# Altium integrated library ECS-TXO-5032-120-TR.IntLib: 1 symbol
Pins are listed as number, name and electrical type; pins without a type are passive.

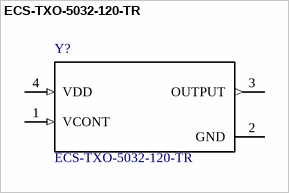
[diagram p0: symbol ECS-TXO-5032-120-TR]

## ECS-TXO-5032-120-TR
designator Y?
ECS-TXO-5032, OSC TCXO 12.000MHZ HCMOS SMD, 3.3V, 2.5ppm, -30C ~ 85C, 6mA, Surface Mount, 0.197 L x 0.126 W _5.00mm...; MF: ECS Inc.; Digi-Key_Purchase_URL: *; Package: SMD-4 ECS International; SnapEDA_Link: https://www.snapeda.com/parts/ECS-TXO-5032-120-TR/ECS%20Inc./view-part/?ref=snap; Digi-Key_Part_Number: *; MP: ECS-TXO-5032-120-TR; Value: *
footprint *OSC_ECS-TXO-5032-120-TR
pins: 1 VCONT (in), 2 GND (power), 3 OUTPUT (out), 4 VDD (in)